# EAGLE library part CH340T (library arno)
CH340T Based on information from wch-ic.com <http://wch-ic.com/product/usb/ch340.asp>
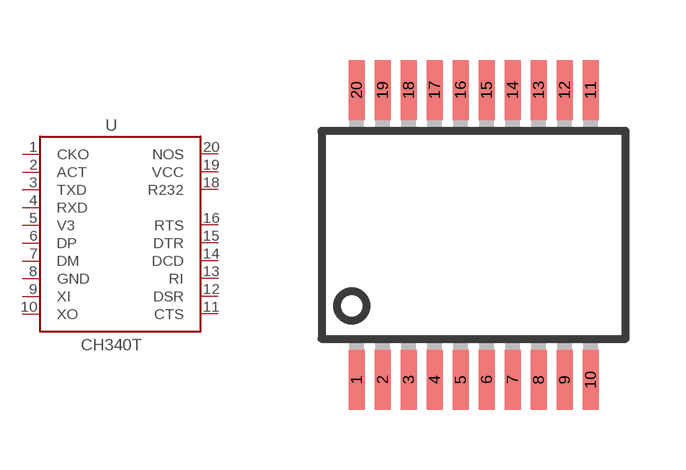
[diagram p17: symbol with the pads of SSOP20; footprint SSOP20]

Designator prefix -

## CH340T  [SSOP20]
1  CKO
2  ACT
3  TXD
4  RXD
5  V3
6  DP
7  DM
8  GND
9  XI
10  XO
11  CTS
12  DSR
13  RI
14  DCD
15  DTR
16  RTS
18  R232
19  VCC
20  NOS

## Footprint SSOP20 (pad centres in mm)
SSOP-20 package Copied from SparkFun-DigitalIC.lbr
smd 0.4 x 1.5: 1 -2.925,-3.625; 2 -2.275,-3.625; 3 -1.625,-3.625; 4 -0.975,-3.625; 5 -0.325,-3.625; 6 0.325,-3.625; 7 0.975,-3.625; 8 1.625,-3.625; 9 2.275,-3.625; 10 2.925,-3.625; 11 2.925,3.625; 12 2.275,3.625; 13 1.625,3.625; 14 0.975,3.625; 15 0.325,3.625; 16 -0.325,3.625; 17 -0.975,3.625; 18 -1.625,3.625; 19 -2.275,3.625; 20 -2.925,3.625